# EAGLE library part LSM330D (library BoneCapeParts)
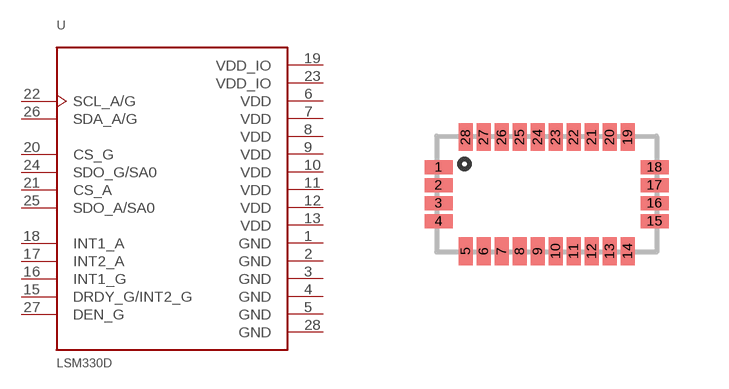
[diagram p4: symbol with the pads of LGA28L; footprint LGA28L]

Designator prefix -

## LSM330D  [LGA28L]
1  GND  sup
2  GND  sup
3  GND  sup
4  GND  sup
5  GND  sup
6  VDD  sup
7  VDD  sup
8  VDD  sup
9  VDD  sup
10  VDD  sup
11  VDD  sup
12  VDD  sup
13  VDD  sup
15  DRDY_G/INT2_G  out
16  INT1_G  out
17  INT2_A  out
18  INT1_A  out
19  VDD_IO  sup
20  CS_G  in
21  CS_A  in
22  SCL_A/G  oc
23  VDD_IO  sup
24  SDO_G/SA0
25  SDO_A/SA0
26  SDA_A/G  oc
27  DEN_G  in
28  GND  sup

## Footprint LGA28L (pad centres in mm)
smd 0.7 x 0.35: 1 -2.7,0.675; 2 -2.7,0.225; 3 -2.7,-0.225; 4 -2.7,-0.675; 15 2.7,-0.675; 16 2.7,-0.225; 17 2.7,0.225; 18 2.7,0.675
smd 0.35 x 0.7: 5 -2.025,-1.425; 6 -1.575,-1.425; 7 -1.125,-1.425; 8 -0.675,-1.425; 9 -0.225,-1.425; 10 0.225,-1.425; 11 0.675,-1.425; 12 1.125,-1.425; 13 1.575,-1.425; 14 2.025,-1.425; 19 2.025,1.425; 20 1.575,1.425; 21 1.125,1.425; 22 0.675,1.425; 23 0.225,1.425; 24 -0.225,1.425; 25 -0.675,1.425; 26 -1.125,1.425; 27 -1.575,1.425; 28 -2.025,1.425